# EAGLE library part RAST_6 (library own_rast)
RAST connector with 6 pins
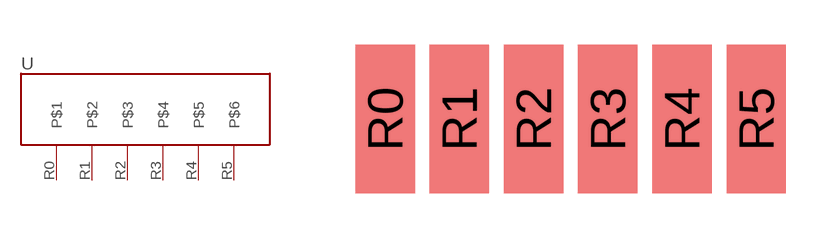
[diagram p0: symbol with the pads of RAST_6; footprint RAST_6]

Designator prefix -

## RAST_6  [RAST_6]
R0  P$1
R1  P$2
R2  P$3
R3  P$4
R4  P$5
R5  P$6

## Footprint RAST_6 (pad centres in mm)
smd 2 x 5: R0 -6,0; R1 -3.5,0; R2 -1,0; R3 1.5,0; R4 4,0; R5 6.5,0